# EAGLE library part Q_CD74ACT14 (library MRDT-2014-All)
HEX Schmitt-trigger Inverter
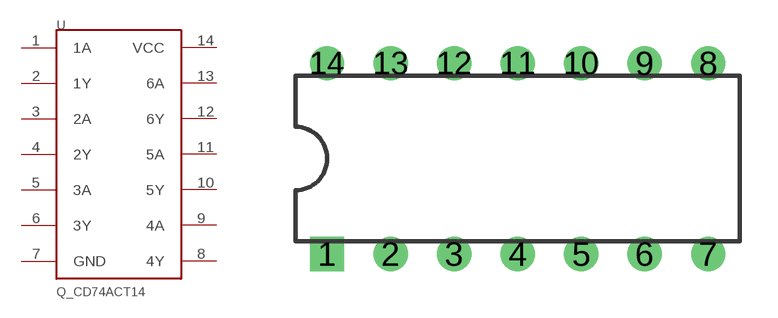
[diagram p5: symbol with the pads of DIP14; footprint DIP14]

Designator prefix -

## Q_CD74ACT14  [DIP14]
1  1A
2  1Y
3  2A
4  2Y
5  3A
6  3Y
7  GND
8  4Y
9  4A
10  5Y
11  5A
12  6Y
13  6A
14  VCC

## Footprint DIP14 (pad centres in mm)
drill 0.864 square: 1 -7.62,-3.81
drill 0.864: 2 -5.08,-3.81; 3 -2.54,-3.81; 4 0,-3.81; 5 2.54,-3.81; 6 5.08,-3.81; 7 7.62,-3.81; 8 7.62,3.81; 9 5.08,3.81; 10 2.54,3.81; 11 0,3.81; 12 -2.54,3.81; 13 -5.08,3.81; 14 -7.62,3.81